# Altium schematic symbol library PCB_connectors.SchLib: 2 symbols
Pins are listed as number, name and electrical type; pins without a type are passive.

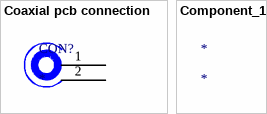
[diagram p0: symbols Coaxial pcb connection to Component_1]

## Coaxial pcb connection
designator CON?
SMD PCB connector for coaxial cabel
footprint SMD coaxial connector
pins: 1 SIG, 2 GND

## Component_1
designator *